# Altium footprint library 20-VQFN_EXPOSED_PAD.PcbLib: 1 footprints
Each footprint in its own frame and in the unit in brackets; x right, y up, seen from the top. Pads: shape width x height; smd on the part's side, far side on the other; paste and mask are expansions set on the pad; w line width, h text height; cw(c..) or ccw(c..) is an arc to the next point about the centre after c.
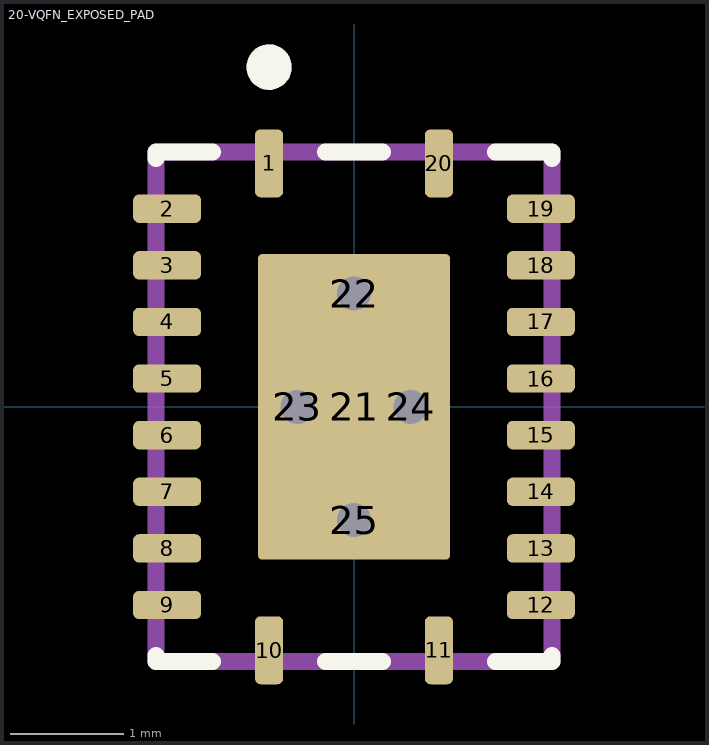
[diagram p0: the footprint, top view; thin cyan lines are the x and y axes]

## 20-VQFN_EXPOSED_PAD [mm]
height 1
pads (25):
  rrect40% 0.25x0.6 smd paste+0 mask+0.051: 1(-0.75,2.15) 10(-0.75,-2.15) 11(0.75,-2.15) 20(0.75,2.15)
  rrect40% 0.6x0.25 smd paste+0 mask+0.051: 2(-1.65,1.75) 3(-1.65,1.25) 4(-1.65,0.75) 5(-1.65,0.25) 6(-1.65,-0.25) 7(-1.65,-0.75) 8(-1.65,-1.25) 9(-1.65,-1.75) 12(1.65,-1.75) 13(1.65,-1.25) 14(1.65,-0.75) 15(1.65,-0.25) 16(1.65,0.25) 17(1.65,0.75) 18(1.65,1.25) 19(1.65,1.75)
  rrect5% 1.7x2.7 smd paste-2 mask+0.051: 21(0,0)
  round 0.6 hole 0.3 mask+0: 22(0,1) 23(-0.5,0) 24(0.5,0) 25(0,-1)
Top Overlay:
  circle w0.2: c-0.75,3 r0.1
  lines w0.15: -1.75,-2.195 -1.75,-2.25 -1.25,-2.25 ; -1.75,2.195 -1.75,2.25 -1.25,2.25 ; -0.25,-2.25 0.25,-2.25 ; -0.25,2.25 0.25,2.25 ; 1.25,-2.25 1.75,-2.25 1.75,-2.195 ; 1.25,2.25 1.75,2.25 1.75,2.195
Top Paste:
  drawing of 4 lines, arcs and shapes, not listed
Top Solder:
  drawing of 21 lines, arcs and shapes, not listed
Mechanical 13:
  circle w0.2: c-0.75,3 r0.1
  lines w0.15: -1.75,-2.25 -1.75,2.25 1.75,2.25 1.75,-2.25 -1.75,-2.25
Mechanical 15:
  lines w0.15: -0.5,0 0,0 ; 0,-0.5 0,0 ; 0,0.5 0,0 ; 0.5,0 0,0
3D body "step_temp.STEP": height 1, standoff 0, extent -1.75,-2.25 1.75,2.25